# Altium schematic symbol library PX4FMUv2.4.6.SCHLIB: 261 symbols (part 3 of 3)
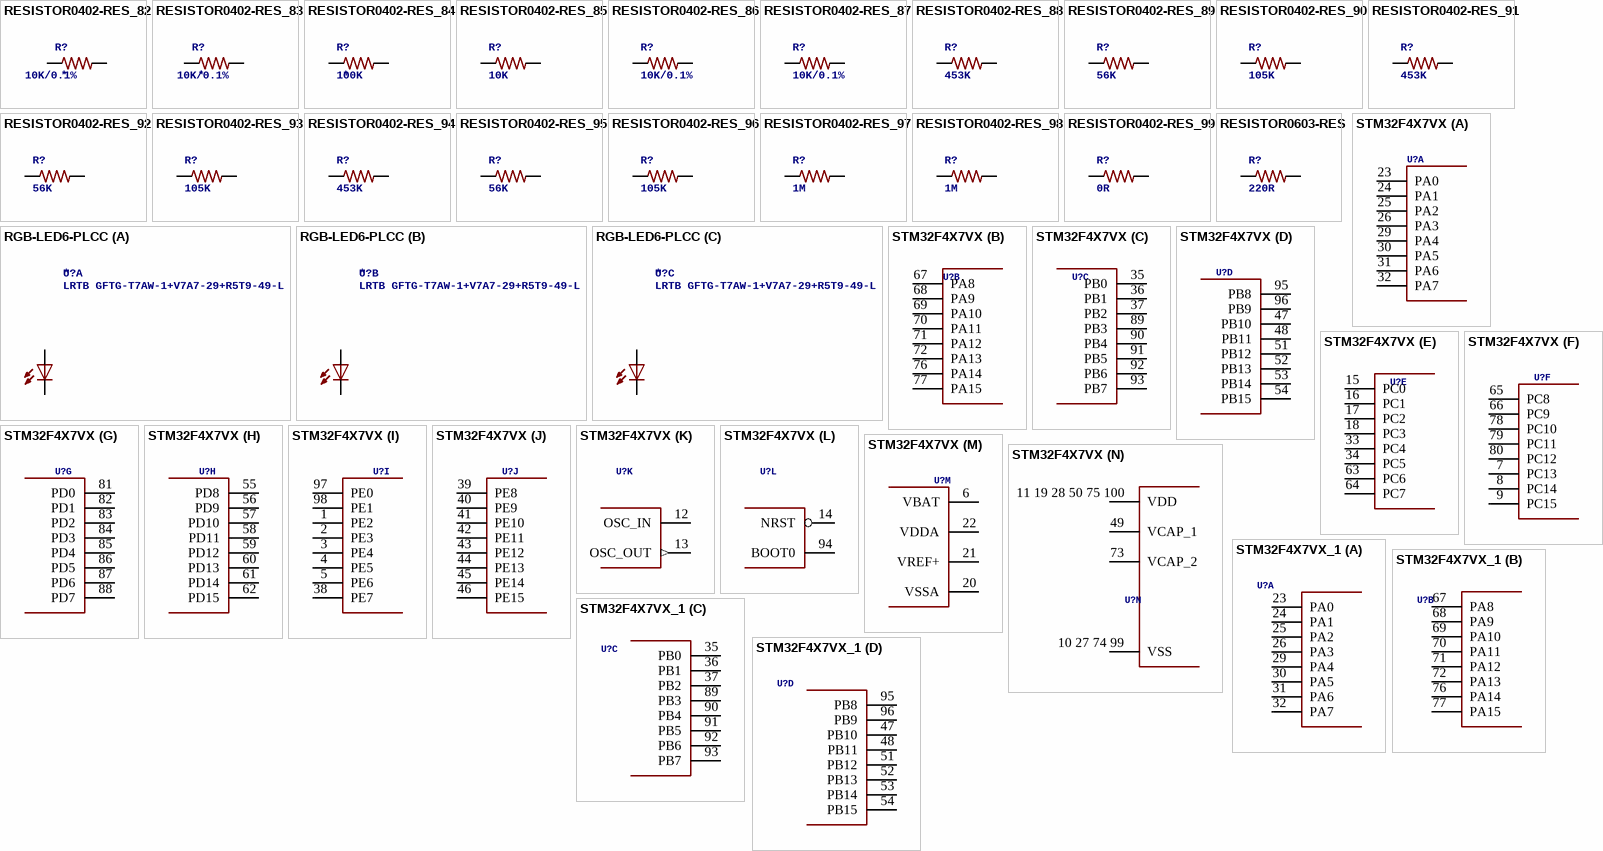
[diagram p10: symbols RESISTOR0402-RES_82 to STM32F4X7VX_1]

## STM32F4X7VX
designator U?  (value not drawn)
STM32F4X7VX 100 pin LQFP STM32F407VE - 512 KB flash, no crypto STM32F407VG - 1 MB flash, no crypto STM32F417VE - 512 KB flash, with crypto STM32F417VG - 1 MB flash, with crypto; PARTNO: STM32F427VI; GateName_1: PORTA_L; SymbolName_1: PORT_A_L-1; GateName_2: PORTA_H; SymbolName_2: PORT_A_H-1; GateName_3: PORTB_L; SymbolName_3: PORT_B_L-1; GateName_4: PORTB_H; SymbolName_4: PORT_B_H-1; GateName_5: PORTC_L; SymbolName_5: PORT_C_L-1; GateName_6: PORTC_H; SymbolName_6: PORT_C_H-1; GateName_7: PORTD_L; SymbolName_7: PORT_D_L; GateName_8: PORTD_H; SymbolName_8: PORT_D_H; GateName_9: PORTE_L; SymbolName_9: PORT_E_L; GateName_10: PORTE_H; SymbolName_10: PORT_E_H; GateName_11: OSC; GateName_12: RESET; SymbolName_12: BOOT_RST-1; GateName_13: BAT; SymbolName_13: STM32F4X_BAT_AN_L; GateName_14: G$2; SymbolName_14: STM32F4X_VCC_VSS_L; SymbolName_11: OSC; LibraryName: pixhawk2; DeviceSetName: STM32F4X7VX
footprint TQFP100
part A pins: 23 PA0, 24 PA1, 25 PA2, 26 PA3, 29 PA4, 30 PA5, 31 PA6, 32 PA7
part B pins: 67 PA8, 68 PA9, 69 PA10, 70 PA11, 71 PA12, 72 PA13, 76 PA14, 77 PA15
part C pins: 35 PB0, 36 PB1, 37 PB2, 89 PB3, 90 PB4, 91 PB5, 92 PB6, 93 PB7
part D pins: 47 PB10, 48 PB11, 51 PB12, 52 PB13, 53 PB14, 54 PB15, 95 PB8, 96 PB9
part E pins: 15 PC0, 16 PC1, 17 PC2, 18 PC3, 33 PC4, 34 PC5, 63 PC6, 64 PC7
part F pins: 7 PC13, 8 PC14, 9 PC15, 65 PC8, 66 PC9, 78 PC10, 79 PC11, 80 PC12
part G pins: 81 PD0, 82 PD1, 83 PD2, 84 PD3, 85 PD4, 86 PD5, 87 PD6, 88 PD7
part H pins: 55 PD8, 56 PD9, 57 PD10, 58 PD11, 59 PD12, 60 PD13, 61 PD14, 62 PD15
part I pins: 1 PE2, 2 PE3, 3 PE4, 4 PE5, 5 PE6, 38 PE7, 97 PE0, 98 PE1
part J pins: 39 PE8, 40 PE9, 41 PE10, 42 PE11, 43 PE12, 44 PE13, 45 PE14, 46 PE15
part K pins: 12 OSC_IN, 13 OSC_OUT (out)
part L pins: 14 NRST, 94 BOOT0
part M pins: 6 VBAT (power), 20 VSSA (power), 21 VREF+, 22 VDDA (power)
part N pins: 10 27 74 99 VSS (power), 11 19 28 50 75 100 VDD (power), 49 VCAP_1 (power), 73 VCAP_2 (power)

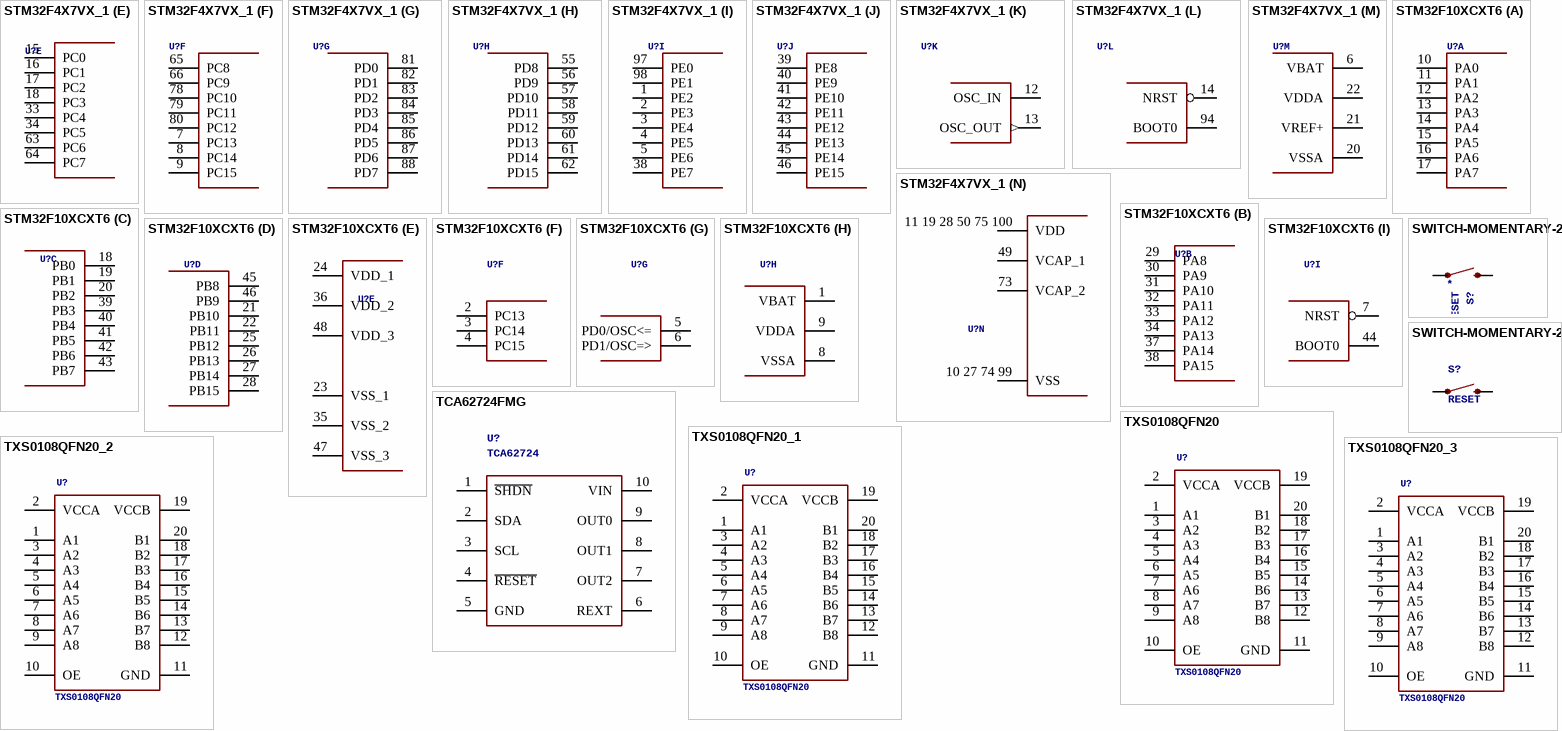
[diagram p8: symbols STM32F4X7VX_1 to TXS0108QFN20_3]

## STM32F4X7VX_1
designator U?, comment STM32F4X7VX  (value not drawn)
STM32F4X7VX 100 pin LQFP STM32F407VE - 512 KB flash, no crypto STM32F407VG - 1 MB flash, no crypto STM32F417VE - 512 KB flash, with crypto STM32F417VG - 1 MB flash, with crypto; PARTNO: STM32F427VI; GateName_1: PORTA_L; SymbolName_1: PORT_A_L-1; GateName_2: PORTA_H; SymbolName_2: PORT_A_H-1; GateName_3: PORTB_L; SymbolName_3: PORT_B_L-1; GateName_4: PORTB_H; SymbolName_4: PORT_B_H-1; GateName_5: PORTC_L; SymbolName_5: PORT_C_L-1; GateName_6: PORTC_H; SymbolName_6: PORT_C_H-1; GateName_7: PORTD_L; SymbolName_7: PORT_D_L; GateName_8: PORTD_H; SymbolName_8: PORT_D_H; GateName_9: PORTE_L; SymbolName_9: PORT_E_L; GateName_10: PORTE_H; SymbolName_10: PORT_E_H; GateName_11: OSC; GateName_12: RESET; SymbolName_12: BOOT_RST-1; GateName_13: BAT; SymbolName_13: STM32F4X_BAT_AN_L; GateName_14: G$2; SymbolName_14: STM32F4X_VCC_VSS_L; SymbolName_11: OSC; LibraryName: pixhawk2; DeviceSetName: STM32F4X7VX
footprint TQFP100
part A pins: 23 PA0, 24 PA1, 25 PA2, 26 PA3, 29 PA4, 30 PA5, 31 PA6, 32 PA7
part B pins: 67 PA8, 68 PA9, 69 PA10, 70 PA11, 71 PA12, 72 PA13, 76 PA14, 77 PA15
part C pins: 35 PB0, 36 PB1, 37 PB2, 89 PB3, 90 PB4, 91 PB5, 92 PB6, 93 PB7
part D pins: 47 PB10, 48 PB11, 51 PB12, 52 PB13, 53 PB14, 54 PB15, 95 PB8, 96 PB9
part E pins: 15 PC0, 16 PC1, 17 PC2, 18 PC3, 33 PC4, 34 PC5, 63 PC6, 64 PC7
part F pins: 7 PC13, 8 PC14, 9 PC15, 65 PC8, 66 PC9, 78 PC10, 79 PC11, 80 PC12
part G pins: 81 PD0, 82 PD1, 83 PD2, 84 PD3, 85 PD4, 86 PD5, 87 PD6, 88 PD7
part H pins: 55 PD8, 56 PD9, 57 PD10, 58 PD11, 59 PD12, 60 PD13, 61 PD14, 62 PD15
part I pins: 1 PE2, 2 PE3, 3 PE4, 4 PE5, 5 PE6, 38 PE7, 97 PE0, 98 PE1
part J pins: 39 PE8, 40 PE9, 41 PE10, 42 PE11, 43 PE12, 44 PE13, 45 PE14, 46 PE15
part K pins: 12 OSC_IN, 13 OSC_OUT (out)
part L pins: 14 NRST, 94 BOOT0
part M pins: 6 VBAT (power), 20 VSSA (power), 21 VREF+, 22 VDDA (power)
part N pins: 10 27 74 99 VSS (power), 11 19 28 50 75 100 VDD (power), 49 VCAP_1 (power), 73 VCAP_2 (power)

## STM32F10XCXT6
designator U?  (value not drawn)
ST STM32F101/103 48pin LQFP; PARTNO: STM32F100C8T6B; GateName_1: PORTA_L; SymbolName_1: PORT_A_L-1; GateName_2: PORTA_H; SymbolName_2: PORT_A_H-1; GateName_3: PORTB_L; SymbolName_3: PORT_B_L-1; GateName_4: PORTB_H; SymbolName_4: PORT_B_H-1; GateName_5: POWER; SymbolName_5: VCC_VDD_S; GateName_6: PORTC; SymbolName_6: PORT_C_3; GateName_7: PORTD/OSC; SymbolName_7: PORT_D_2; GateName_8: AN_POWER; SymbolName_8: BAT_AN_M-1; GateName_9: RESET; SymbolName_9: BOOT_RST-1; LibraryName: pixhawk2; DeviceSetName: STM32F10XCXT6
footprint TQFP48
part A pins: 10 PA0, 11 PA1, 12 PA2, 13 PA3, 14 PA4, 15 PA5, 16 PA6, 17 PA7
part B pins: 29 PA8, 30 PA9, 31 PA10, 32 PA11, 33 PA12, 34 PA13, 37 PA14, 38 PA15
part C pins: 18 PB0, 19 PB1, 20 PB2, 39 PB3, 40 PB4, 41 PB5, 42 PB6, 43 PB7
part D pins: 21 PB10, 22 PB11, 25 PB12, 26 PB13, 27 PB14, 28 PB15, 45 PB8, 46 PB9
part E pins: 23 VSS_1 (power), 24 VDD_1 (power), 35 VSS_2 (power), 36 VDD_2 (power), 47 VSS_3 (power), 48 VDD_3 (power)
part F pins: 2 PC13, 3 PC14, 4 PC15
part G pins: 5 PD0/OSC<=, 6 PD1/OSC=>
part H pins: 1 VBAT (power), 8 VSSA (power), 9 VDDA (power)
part I pins: 7 NRST, 44 BOOT0

## SWITCH-MOMENTARY-2
designator S?, comment RESET
PARTNO: EVQ-P7J01P; GateName_1: G$1; SymbolName_1: SWITCH-MOMENTARY-2; LibraryName: pixhawk2; DeviceSetName: SWITCH-MOMENTARY-2; NAME: *
footprint EVQP7J01K
pins: A1 1, B3 2

## SWITCH-MOMENTARY-2_1
designator S?, comment RESET
PARTNO: EVQ-P7J01P; GateName_1: G$1; SymbolName_1: SWITCH-MOMENTARY-2; LibraryName: pixhawk2; DeviceSetName: SWITCH-MOMENTARY-2
footprint EVQP7J01K
pins: A1 1, B3 2

## TCA62724FMG
designator U?  (value not drawn)
Toshiba TCA62724FMG I2C RGB LED driver; GateName_1: G$1; SymbolName_1: TCA62724; LibraryName: pixhawk2; DeviceSetName: TCA62724FMG; PARTNO: TCA62724FMG; TCA62724: TCA62724
footprint SON10
pins: 1 ~{SHDN}, 2 SDA, 3 SCL, 4 ~{RESET}, 5 GND (power), 6 REXT, 7 OUT2 (oc), 8 OUT1 (oc), 9 OUT0 (oc), 10 VIN (power)

## TXS0108QFN20
designator U?
PARTNO: TXS0108ERGYR; GateName_1: G$1; SymbolName_1: TX?0108; DeviceName: QFN20; LibraryName: pixhawk2; DeviceSetName: TXS0108
footprint QFN20-RGY
pins: 1 A1, 2 VCCA, 3 A2, 4 A3, 5 A4, 6 A5, 7 A6, 8 A7, 9 A8, 10 OE, 11 GND (oe), 12 B8, 13 B7, 14 B6, 15 B5, 16 B4, 17 B3, 18 B2, 19 VCCB, 20 B1

## TXS0108QFN20_1
designator U?, comment TXS0108QFN20
PARTNO: TXS0108ERGYR; GateName_1: G$1; SymbolName_1: TX?0108; DeviceName: QFN20; LibraryName: pixhawk2; DeviceSetName: TXS0108
footprint QFN20-RGY
pins: 1 A1, 2 VCCA, 3 A2, 4 A3, 5 A4, 6 A5, 7 A6, 8 A7, 9 A8, 10 OE, 11 GND (oe), 12 B8, 13 B7, 14 B6, 15 B5, 16 B4, 17 B3, 18 B2, 19 VCCB, 20 B1

## TXS0108QFN20_2
designator U?, comment TXS0108QFN20
PARTNO: TXS0108ERGYR; GateName_1: G$1; SymbolName_1: TX?0108; DeviceName: QFN20; LibraryName: pixhawk2; DeviceSetName: TXS0108
footprint QFN20-RGY
pins: 1 A1, 2 VCCA, 3 A2, 4 A3, 5 A4, 6 A5, 7 A6, 8 A7, 9 A8, 10 OE, 11 GND (oe), 12 B8, 13 B7, 14 B6, 15 B5, 16 B4, 17 B3, 18 B2, 19 VCCB, 20 B1

## TXS0108QFN20_3
designator U?, comment TXS0108QFN20
PARTNO: TXS0108ERGYR; GateName_1: G$1; SymbolName_1: TX?0108; DeviceName: QFN20; LibraryName: pixhawk2; DeviceSetName: TXS0108
footprint QFN20-RGY
pins: 1 A1, 2 VCCA, 3 A2, 4 A3, 5 A4, 6 A5, 7 A6, 8 A7, 9 A8, 10 OE, 11 GND (oe), 12 B8, 13 B7, 14 B6, 15 B5, 16 B4, 17 B3, 18 B2, 19 VCCB, 20 B1